# Altium schematic symbol library Header_Molex_87832-1420_14POS.SchLib: 1 symbol
Pins are listed as number, name and electrical type; pins without a type are passive.

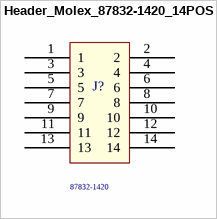
[diagram p0: symbol Header_Molex_87832-1420_14POS]

## Header_Molex_87832-1420_14POS
designator J?  Series: 87832-1420  (hidden comment: Header_Molex_87832-1420_14POS)
Headers & Wire Housings 14P SMD PB FREE SHRD; Supplier Part Number 1: 538-87832-1420; Supplier 1: Mouser
footprint Header_Molex_87832-1420_14POS
pins: 1, 2, 3, 4, 5, 6, 7, 8, 9, 10, 11, 12, 13, 14